# Altium footprint library S2B-PH-SM4-TB_LF__SN_.PcbLib: 1 footprints
Each footprint in its own frame and in the unit in brackets; x right, y up, seen from the top. Pads: shape width x height; smd on the part's side, far side on the other; paste and mask are expansions set on the pad; w line width, h text height; cw(c..) or ccw(c..) is an arc to the next point about the centre after c.
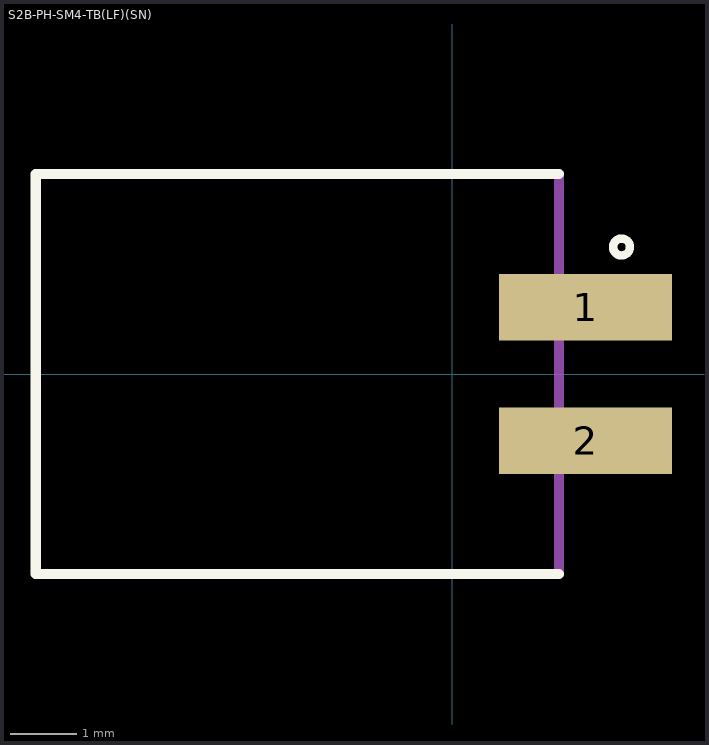
[diagram p0: the footprint, top view; thin cyan lines are the x and y axes]

## S2B-PH-SM4-TB(LF)(SN) [mm]
pads (2):
  rect 2.6x1 smd: 1(2,1) 2(2,-1)
Top Overlay:
  circle w0.127: c2.54,1.905 r0.127
  lines w0.152: 1.6,-3 -6.25,-3 -6.25,3 1.6,3
Mechanical 1:
  lines w0.152: 1.6,-3 1.6,3